# Altium integrated library HER207G.IntLib: 1 symbol
Pins are listed as number, name and electrical type; pins without a type are passive.

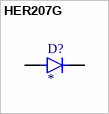
[diagram p0: symbol HER207G]

## HER207G
designator D?
75ns, 2A, 800V, High Efficient Recovery Rectifier; MP: HER207G; MF: Taiwan Semiconductor; SnapEDA_Link: https://www.snapeda.com/parts/HER207G/Taiwan+Semiconductor/view-part/?ref=snap; Availability: In Stock; Price: None; Check_prices: https://www.snapeda.com/parts/HER207G/Taiwan+Semiconductor/view-part/?ref=eda; Purchase-URL: https://pricing.snapeda.com/search/part/HER207G/?ref=eda; Package: DO-15 Taiwan Semiconductor; Value: *
footprint DIOAD1300W80L670D310
pins: A, C K